# Altium footprint library BM05B-GHS-TBT(LF)(SN)(N).PcbLib: 1 footprints
Each footprint in its own frame and in the unit in brackets; x right, y up, seen from the top. Pads: shape width x height; smd on the part's side, far side on the other; paste and mask are expansions set on the pad; w line width, h text height; cw(c..) or ccw(c..) is an arc to the next point about the centre after c.
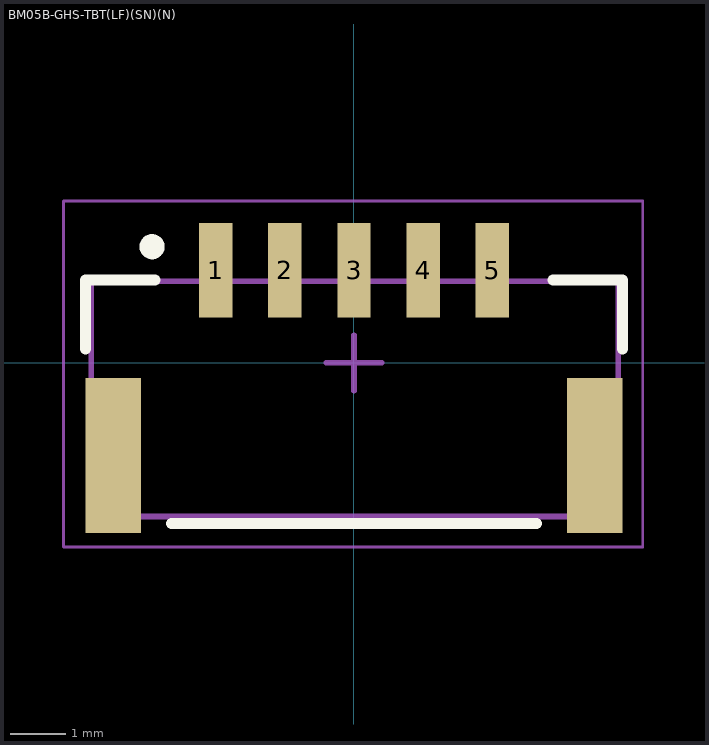
[diagram p0: the footprint, top view; thin cyan lines are the x and y axes]

## BM05B-GHS-TBT(LF)(SN)(N) [mm]
pads (7):
  rect 0.6x1.7 smd: 1(-2.5,1.675) 2(-1.25,1.675) 3(0,1.675) 4(1.25,1.675) 5(2.5,1.675)
  rect 1x2.8 smd: ""(-4.35,-1.675) ""(4.35,-1.675)
Top Overlay:
  circle w0.254: c-3.65,2.1 r0.1
  lines w0.2: -4.85,0.25 -4.85,1.5 -3.6,1.5 ; -3.3,-2.9 3.3,-2.9 ; 3.6,1.5 4.85,1.5 4.85,0.25
Mechanical 1:
  lines w0.1: -4.75,-2.775 -4.75,1.475 4.775,1.475 4.775,-2.775 -4.75,-2.775
  text ".Designator" at -3.374,-1.308 h0.65
Mechanical 2:
  lines w0.05: -5.25,-3.325 -5.25,2.925 5.217,2.925 5.217,-3.325 -5.25,-3.325
  lines w0.1: -0.5,0 0.5,0 ; 0,-0.5 0,0.5
3D body "BM05B-GHS-TBT.STEP": height 4.18, standoff -0.03, extent -4.725,-2.775 4.775,2.175